# EAGLE library part 1048 (library 18650_Library)
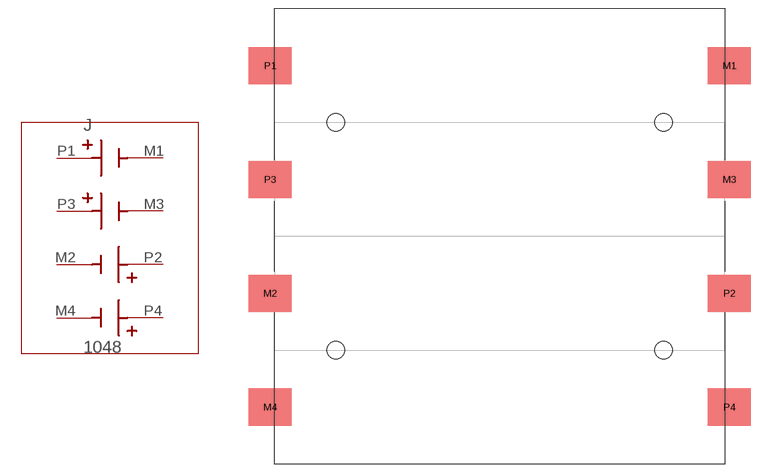
[diagram p0: symbol with the pads of CONN4_1048_KEY; footprint CONN4_1048_KEY]

Designator prefix J

## 1048CONN4_1048_KEY (COPYRIGHT: Copyright (C) 2024 Ultra Librarian. All rights reserved.; MANUFACTURER_PART_NUMBER: 1048; MFR_NAME: Keystone Electronics)  [CONN4_1048_KEY]
M1  N1  pas
M2  N2  pas
M3  N3  pas
M4  N4  pas
P1  P1  pas
P2  P2  pas
P3  P3  pas
P4  P4  pas

## Footprint CONN4_1048_KEY (pad centres in mm)
smd 7.341 x 6.35: M1 39.332,29.25; M2 -39.332,-9.75; M3 39.332,9.75; M4 -39.332,-29.25; P1 -39.332,29.25; P2 39.332,-9.75; P3 -39.332,9.75; P4 39.332,-29.25
hole 3 at -28.089,19.5
hole 3 at 28.089,19.5
hole 3 at 28.089,-19.5
hole 3 at -28.089,-19.5